# EAGLE library part L_29F0429 (library MRDT-2014-All)
Through-Hole Ferrite Bead 285 Ohm @ 100MHz
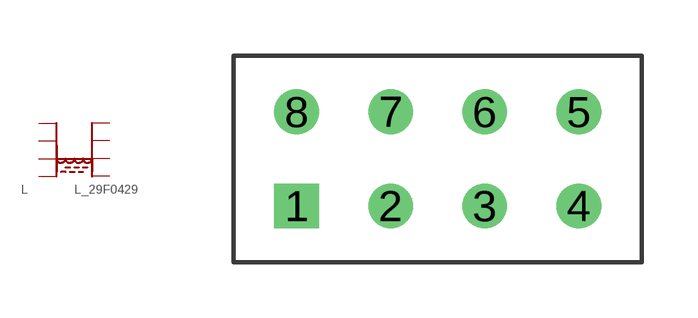
[diagram p11: symbol with the pads of L_29F0429; footprint L_29F0429]

Designator prefix L

## L_29F0429  [L_29F0429]
1  1
2  2
3  3
4  4
5  5
6  6
7  7
8  8

## Footprint L_29F0429 (pad centres in mm)
drill 0.7 square: 1 -3.81,-1.27
drill 0.7: 2 -1.27,-1.27; 3 1.27,-1.27; 4 3.81,-1.27; 5 3.81,1.27; 6 1.27,1.27; 7 -1.27,1.27; 8 -3.81,1.27